# EAGLE library part RES-NET-YC324-JK-0710KL (library eagleparts)
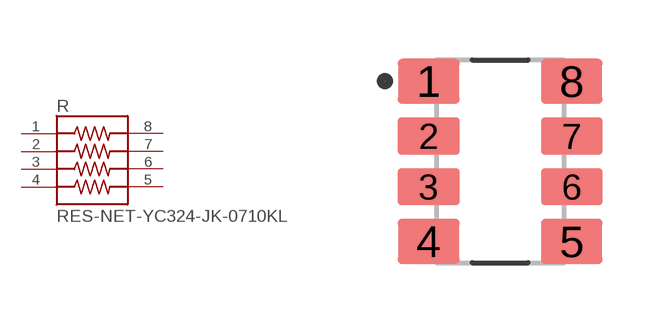
[diagram p9: symbol with the pads of RESCAXS127P508X320X70-8N; footprint RESCAXS127P508X320X70-8N]

Designator prefix R

## RES-NET-YC324-JK-0710KL (MANUFACTURER: Yageo; MAXIMUM_PACKAGE_HEIGHT: 0.7 mm; PARTREV: V.9; SNAPEDA_PACKAGE_ID: 22941; STANDARD: IPC 7351B)  [RESCAXS127P508X320X70-8N]
1  1  pas
2  2  pas
3  3  pas
4  4  pas
5  5  pas
6  6  pas
7  7  pas
8  8  pas

## Footprint RESCAXS127P508X320X70-8N (pad centres in mm)
smd 1.54 x 1.13: 1 -1.79,2.005; 4 -1.79,-2.005; 5 1.79,-2.005; 8 1.79,2.005
smd 1.54 x 0.93: 2 -1.79,0.635; 3 -1.79,-0.635; 6 1.79,-0.635; 7 1.79,0.635